# Altium footprint library Resistors THD.PcbLib: 108 footprints (part 3 of 7)
Each footprint in its own frame and in the unit in brackets; x right, y up, seen from the top. Pads: shape width x height; smd on the part's side, far side on the other; paste and mask are expansions set on the pad; w line width, h text height; cw(c..) or ccw(c..) is an arc to the next point about the centre after c.
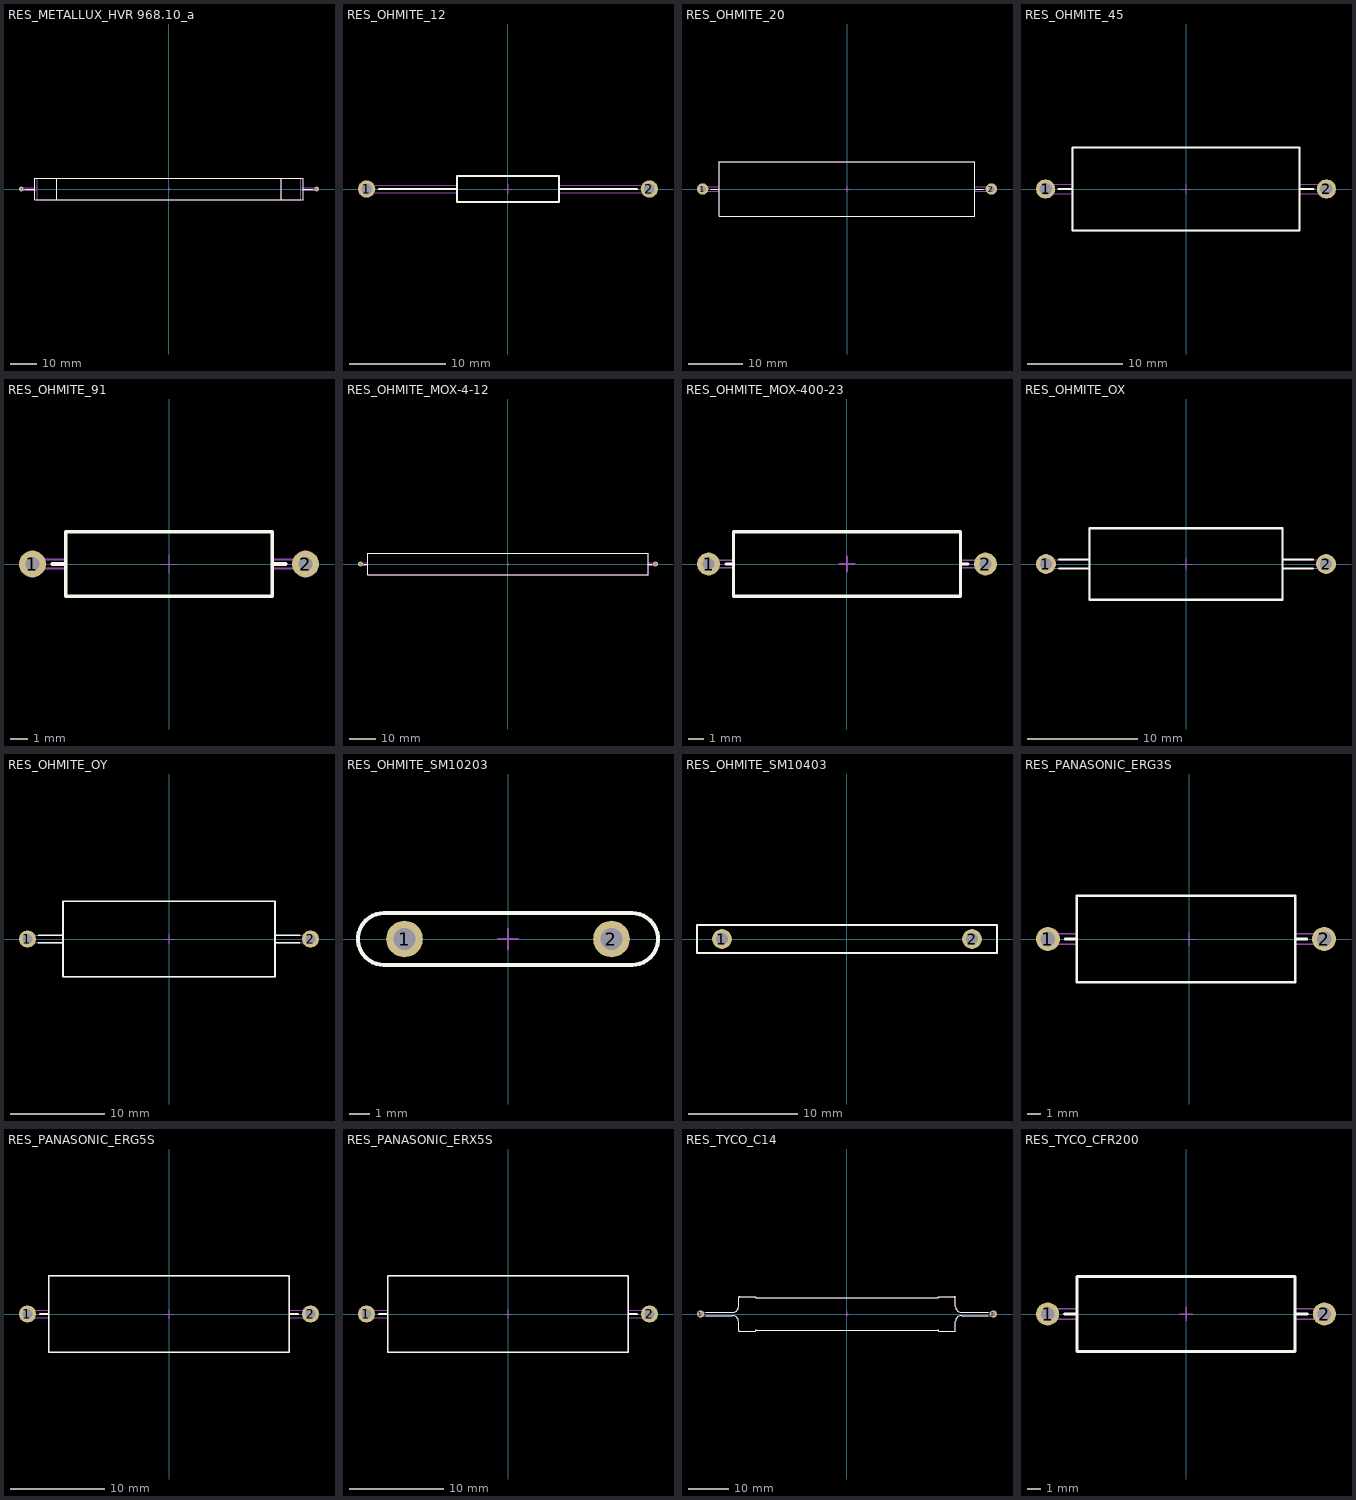
[diagram p2: the footprints below, top view; thin cyan lines are the x and y axes]

## RES_METALLUX_HVR 968.10_a [mm] "Resistor, Axial, Lead Spacing 112mm - Body Lengh 102mm X Body Diameter 8mm, Blue Coating"
height 8
pads (2):
  round 1.8 hole 1.1: 1(-56,0) 2(56,0)
Top Overlay:
  lines w0.2: -54.7,0 -51,0 ; -42.5,-4 -42.5,4 ; 42.5,-4 42.5,4 ; 51,0 54.7,0 ; -51,-4 51,-4 51,4 -51,4 -51,-4
Mechanical 8:
  lines w0.1: -56.5,0 -56,0 ; -56,-0.5 -56,0 ; -56,0.5 -56,0 ; -55.5,0 -56,0 ; -0.5,0 0,0 ; 0,-0.5 0,0 ; 0,0.5 0,0 ; 0.5,0 0,0 ; 55.5,0 56,0 ; 56,-0.5 56,0 ; 56,0.5 56,0 ; 56.5,0 56,0
Mechanical 14:
  lines w0.1: -50,-0.75 -51,-0.4 ; -50,0.75 -51,0.4 ; -42.5,-4 -42.5,4 ; 42.5,-4 42.5,4 ; 50,-0.75 51,-0.4 ; 50,0.75 51,0.4 ; -51,-0.4 -51,0.4 ; -51,-0.4 -56,-0.4 cw(c-56,0) -56,0.4 -51,0.4 ; 51,-0.4 51,0.4 ; 51,-0.4 56,-0.4 ccw(c56,0) 56,0.4 51,0.4 ; -50,-4 50,-4 50,4 -50,4 -50,-4
3D body "RES_METALLUX_HVR 968.10_a.stp": height 8, standoff -7.6, extent -56.4,-4 56.4,4

## RES_OHMITE_12 [mm] "Resistor, Axial, Pad Spacing 29.4mm - Body Lengh 10.6mm X Body Diameter 2.4mm"
height 2.4
pads (2):
  round 1.8 hole 1.1: 1(-14.7,0) 2(14.7,0)
Top Overlay:
  lines w0.2: -13.4,0 -5.3,0 ; 5.3,0 13.4,0 ; -5.3,-1.35 -5.3,1.35 5.3,1.35 5.3,-1.35 -5.3,-1.35
Mechanical 8:
  lines w0.1: -15.2,0 -14.7,0 ; -14.7,-0.5 -14.7,0 ; -14.7,0.5 -14.7,0 ; -14.2,0 -14.7,0 ; -0.5,0 0,0 ; 0,-0.5 0,0 ; 0,0.5 0,0 ; 0.5,0 0,0 ; 14.2,0 14.7,0 ; 14.7,-0.5 14.7,0 ; 14.7,0.5 14.7,0 ; 15.2,0 14.7,0
Mechanical 14:
  lines w0.1: -5.3,-0.402 -14.699,-0.406 cw(c-14.7,0) -14.7,0.406 -5.3,0.406 ; 5.3,-0.402 14.699,-0.406 ccw(c14.7,0) 14.7,0.406 5.3,0.406 ; -5.3,-1.35 -5.3,1.35 5.3,1.35 5.3,-1.35 -5.3,-1.35
3D body "RES_OHMITE_12.stp": height 2.7, standoff -3.6, extent -15.106,-1.35 15.106,1.35

## RES_OHMITE_20 [mm] "Resistor, Axial, Pad Spacing 53.34mm - Body Lengh 47.2mm X Body Diameter 10mm"
height 10
pads (2):
  round 2.1 hole 1.1: 1(-26.67,0) 2(26.67,0)
Top Overlay:
  lines w0.2: -25.2,0 -23.6,0 ; 23.6,0 25.2,0 ; -23.6,-5 23.6,-5 23.6,5 -23.6,5 -23.6,-5
Mechanical 8:
  lines w0.05: -27.17,0 -26.67,0 ; -26.67,-0.5 -26.67,0 ; -26.67,0.5 -26.67,0 ; -26.17,0 -26.67,0 ; -0.5,0 0,0 ; 0,-0.5 0,0 ; 0,0.5 0,0 ; 0.5,0 0,0 ; 26.17,0 26.67,0 ; 26.67,-0.5 26.67,0 ; 26.67,0.5 26.67,0 ; 27.17,0 26.67,0
Mechanical 14:
  lines w0.1: -23.6,-0.4 -26.67,-0.4 cw(c-26.67,0) -26.67,0.4 -23.6,0.4 ; 23.6,-0.4 26.67,-0.4 ccw(c26.67,0) 26.67,0.4 23.6,0.4 ; -23.6,-5 23.6,-5 23.6,5 -23.6,5 -23.6,-5
3D body "RES_OHMITE_20.stp": height 10, standoff 0, extent -27.069,-5 27.069,5

## RES_OHMITE_45 [mm] "Resistor, Axial, Pad Spacing 29.4mm - Body Lengh 23.8mm X Body Diameter 8.7mm"
height 8.7
pads (2):
  round 2 hole 1.3: 1(-14.7,0) 2(14.7,0)
Top Overlay:
  lines w0.2: -13.35,0 -11.9,0 ; 11.9,0 13.35,0 ; -11.9,-4.35 11.9,-4.35 11.9,4.35 -11.9,4.35 -11.9,-4.35
Mechanical 8:
  lines w0.05: -15.2,0 -14.7,0 ; -14.7,-0.5 -14.7,0 ; -14.7,0.5 -14.7,0 ; -14.2,0 -14.7,0 ; -0.5,0 0,0 ; 0,-0.5 0,0 ; 0,0.5 0,0 ; 0.5,0 0,0 ; 14.2,0 14.7,0 ; 14.7,-0.5 14.7,0 ; 14.7,0.5 14.7,0 ; 15.2,0 14.7,0
Mechanical 14:
  lines w0.1: -14.7,0.5 ccw(c-14.705,0) -14.699,-0.5 ; -14.7,0.506 -11.9,0.506 ; -14.699,-0.506 -11.9,-0.502 ; 11.9,-0.502 14.699,-0.506 ; 11.9,0.506 14.7,0.506 ; 14.699,-0.5 ccw(c14.705,0) 14.7,0.5 ; -11.9,-4.35 11.9,-4.35 11.9,4.35 -11.9,4.35 -11.9,-4.35
3D body "RES_OHMITE_45.stp": height 8.7, standoff -3.6, extent -15.199,-4.35 15.199,4.35

## RES_OHMITE_91 [mm] "Resistor, Axial, Pad Spacing 15.24mm - Body Lengh 11.5mm X Body Diameter 3.6mm"
height 3.6
pads (2):
  round 1.5 hole 0.8: 1(-7.62,0) 2(7.62,0)
Top Overlay:
  lines w0.2: -6.52,0 -5.75,0 ; 5.75,0 6.52,0 ; -5.75,-1.8 5.75,-1.8 5.75,1.8 -5.75,1.8 -5.75,-1.8
Mechanical 8:
  lines w0.05: -8.12,0 -7.62,0 ; -7.62,-0.5 -7.62,0 ; -7.62,0.5 -7.62,0 ; -7.12,0 -7.62,0 ; -0.5,0 0,0 ; 0,-0.5 0,0 ; 0,0.5 0,0 ; 0.5,0 0,0 ; 7.12,0 7.62,0 ; 7.62,-0.5 7.62,0 ; 7.62,0.5 7.62,0 ; 8.12,0 7.62,0
Mechanical 14:
  lines w0.1: -5.75,-0.255 -7.62,-0.255 cw(c-7.62,0) -7.62,0.256 -5.75,0.256 ; 5.75,-0.255 7.62,-0.255 ccw(c7.62,0) 7.62,0.256 5.75,0.256 ; -5.75,-1.8 5.75,-1.8 5.75,1.8 -5.75,1.8 -5.75,-1.8
3D body "RES_OHMITE_91.stp": height 3.6, standoff -3.6, extent -7.873,-1.8 7.874,1.8

## RES_OHMITE_MOX-4-12 [mm] "Resistor, Axial, Pad spacing 110mm - Body Lengh 104.65mm X Body Diameter 7.87mm"
height 7.87
pads (2):
  round 1.8 hole 1.1: 1(-55,0) 2(55,0)
Top Overlay:
  lines w0.2: -53.7,0 -52.325,0 ; 52.325,0 53.7,0 ; -52.325,-3.935 -52.325,3.935 52.325,3.935 52.325,-3.935 -52.325,-3.935
Mechanical 8:
  lines w0.1: -55.5,0 -55,0 ; -55,-0.5 -55,0 ; -55,0.5 -55,0 ; -54.5,0 -55,0 ; -0.5,0 0,0 ; 0,-0.5 0,0 ; 0,0.5 0,0 ; 0.5,0 0,0 ; 54.5,0 55,0 ; 55,-0.5 55,0 ; 55,0.5 55,0 ; 55.5,0 55,0
Mechanical 14:
  lines w0.1: -52.325,-0.4 -55,-0.4 cw(c-55,0) -55,0.4 -52.325,0.4 ; 52.325,-0.4 55,-0.4 ccw(c55,0) 55,0.4 52.325,0.4 ; -52.325,-3.935 -52.325,3.935 52.325,3.935 52.325,-3.935 -52.325,-3.935
3D body "RES_OHMITE_MOX-4-12.stp": height 7.87, standoff -3.6, extent -55.4,-3.935 55.4,3.935

## RES_OHMITE_MOX-400-23 [mm] "Resistor, Axial, Pad spacing 18mm - Body Lengh 14.78mm X Body Diameter 4.19mm"
height 4.19
pads (2):
  round 1.5 hole 0.8: 1(-9,0) 2(9,0)
Top Overlay:
  lines w0.2: -7.85,0 -7.39,0 ; 7.39,0 7.85,0 ; -7.39,-2.095 -7.39,2.095 7.39,2.095 7.39,-2.095 -7.39,-2.095
Mechanical 8:
  lines w0.1: -9.5,0 -9,0 ; -9,-0.5 -9,0 ; -9,0.5 -9,0 ; -8.5,0 -9,0 ; -0.5,0 0,0 ; 0,-0.5 0,0 ; 0,0.5 0,0 ; 0.5,0 0,0 ; 8.5,0 9,0 ; 9,-0.5 9,0 ; 9,0.5 9,0 ; 9.5,0 9,0
Mechanical 14:
  lines w0.1: -7.39,-0.25 -9,-0.25 cw(c-9,0) -9,0.25 -7.39,0.25 ; 7.39,-0.25 9,-0.25 ccw(c9,0) 9,0.25 7.39,0.25 ; -7.39,-2.095 -7.39,2.095 7.39,2.095 7.39,-2.095 -7.39,-2.095
3D body "RES_OHMITE_MOX-400-23.stp": height 4.19, standoff -3.6, extent -9.25,-2.095 9.25,2.095

## RES_OHMITE_OX [mm] "Resistor, Axial, Pad spacing 25.4mm - Body Lengh 19mm X Body Diameter 6.5mm"
height 6.5
pads (2):
  round 1.8 hole 1.1: 1(-12.7,0) 2(12.7,0)
Top Overlay:
  lines w0.2: -11.516,-0.4 -8.75,-0.4 ; -11.516,0.4 -8.75,0.4 -8.75,0 ; 8.75,-0.4 11.516,-0.4 ; 8.75,0.4 11.516,0.4 ; -8.75,-3.25 8.75,-3.25 8.75,3.25 -8.75,3.25 -8.75,-3.25
Mechanical 8:
  lines w0.05: -13.2,0 -12.7,0 ; -12.7,-0.5 -12.7,0 ; -12.7,0.5 -12.7,0 ; -12.2,0 -12.7,0 ; -0.5,0 0,0 ; 0,-0.5 0,0 ; 0,0.5 0,0 ; 0.5,0 0,0 ; 12.2,0 12.7,0 ; 12.7,-0.5 12.7,0 ; 12.7,0.5 12.7,0 ; 13.2,0 12.7,0
Mechanical 14:
  lines w0.1: -8.75,-0.4 -12.7,-0.4 cw(c-12.7,0) -12.7,0.4 -8.75,0.4 -8.75,0 ; 8.75,-0.4 12.7,-0.4 ccw(c12.7,0) 12.7,0.4 8.75,0.4 ; -8.75,-3.25 8.75,-3.25 8.75,3.25 -8.75,3.25 -8.75,-3.25
3D body "RES_OHMITE_OX.stp": height 6.5, standoff -3.6, extent -13.1,-3.25 13.101,3.25

## RES_OHMITE_OY [mm] "Resistor, Axial, Pad spacing 30mm - Body Lengh 22.5mm X Body Diameter 8mm"
height 8
pads (2):
  round 1.8 hole 1.1: 1(-15,0) 2(15,0)
Top Overlay:
  lines w0.2: -13.816,-0.4 -11.25,-0.4 ; -13.816,0.4 -11.25,0.4 ; 11.25,-0.4 13.816,-0.4 ; 11.25,0.4 13.816,0.4 ; -11.25,-4 -11.25,4 11.25,4 11.25,-4 -11.25,-4
Mechanical 2:
  lines w0.1: -15,0 -15,0.4
Mechanical 8:
  lines w0.05: -15.5,0 -15,0 ; -15,-0.5 -15,0 ; -15,0.5 -15,0 ; -14.5,0 -15,0 ; -0.5,0 0,0 ; 0,-0.5 0,0 ; 0,0.5 0,0 ; 0.5,0 0,0 ; 14.5,0 15,0 ; 15,-0.5 15,0 ; 15,0.5 15,0 ; 15.5,0 15,0
Mechanical 14:
  lines w0.1: -11.25,-0.4 -15,-0.4 cw(c-15,0) -15,0.4 -11.25,0.4 ; 11.25,-0.4 15,-0.4 ccw(c15,0) 15,0.4 11.25,0.4 ; -11.25,-4 -11.25,4 11.25,4 11.25,-4 -11.25,-4
3D body "RES_OHMITE_OY.stp": height 8, standoff -3.6, extent -15.398,-4 15.398,4

## RES_OHMITE_SM10203 [mm] "Resistor, Radial, Pad spacing 10.16mm - Body 14.73mm X 2.54mm X 8.64mm H"
height 8.64
pads (2):
  round 1.8 hole 1.1: 1(-5.08,0) 2(5.08,0)
Top Overlay:
  lines w0.2: -6.095,-1.27 cw(c-6.095,0) -6.095,1.27 6.095,1.27 cw(c6.095,0) 6.095,-1.27 -6.095,-1.27
Mechanical 8:
  lines w0.1: -5.58,0 -5.08,0 ; -5.08,-0.5 -5.08,0 ; -5.08,0.5 -5.08,0 ; -4.58,0 -5.08,0 ; -0.5,0 0,0 ; 0,-0.5 0,0 ; 0,0.5 0,0 ; 0.5,0 0,0 ; 4.58,0 5.08,0 ; 5.08,-0.5 5.08,0 ; 5.08,0.5 5.08,0 ; 5.58,0 5.08,0
Mechanical 14:
  lines w0.1: -6.095,-1.27 cw(c-6.095,0) -6.095,1.27 6.095,1.27 cw(c6.095,0) 6.095,-1.27 -6.095,-1.27
3D body "RES_OHMITE_SM10203.stp": height 9.14, standoff -3.6, extent -7.365,-1.27 7.365,1.27

## RES_OHMITE_SM10403 [mm] "Resistor, Radial, Pad spacing 22.86mm - Body 2.54mm X 27.43mm X 8.64mm H"
height 8.64
pads (2):
  round 1.8 hole 1.1: 1(-11.43,0) 2(11.43,0)
Top Overlay:
  lines w0.2: -13.715,-1.27 -13.715,1.27 13.715,1.27 13.715,-1.27 -13.715,-1.27
Mechanical 14:
  lines w0.1: -13.715,-1.27 -13.715,1.27 13.715,1.27 13.715,-1.27 -13.715,-1.27
3D body "RES_OHMITE_SM10403.stp": height 8.64, standoff -3.2, extent -13.715,-1.27 13.715,1.27

## RES_PANASONIC_ERG3S [mm] "Resistor, Axial, Pad Spacing 20.32mm - Body Lengh 15mm X Body Diameter 5.5mm"
height 8.1
pads (2):
  round 1.8 hole 1.1: 1(-10.66,0) 2(10.16,0)
Top Overlay:
  lines w0.2: -9.36,0 -8.5,0 ; 8,0 8.86,0 ; -8.5,-3.25 8,-3.25 8,3.25 -8.5,3.25 -8.5,-3.25
Mechanical 8:
  lines w0.05: -11.16,0 -10.66,0 ; -10.66,-0.5 -10.66,0 ; -10.66,0.5 -10.66,0 ; -10.16,0 -10.66,0 ; -0.5,0 0,0 ; 0,-0.5 0,0 ; 0,0.5 0,0 ; 0.5,0 0,0 ; 9.66,0 10.16,0 ; 10.16,-0.5 10.16,0 ; 10.16,0.5 10.16,0 ; 10.66,0 10.16,0
Mechanical 14:
  lines w0.1: -8.5,-0.4 -10.66,-0.4 cw(c-10.66,0) -10.66,0.4 -8.5,0.4 ; 8,-0.4 10.16,-0.4 ccw(c10.16,0) 10.16,0.4 8,0.4 ; -8.5,-3.25 -8.5,3.25 8,3.25 8,-3.25 -8.5,-3.25
3D body "RES_PANASONIC_ERG3S.stp": height 6.5, standoff -5.35, extent -11.057,-3.25 10.557,3.25

## RES_PANASONIC_ERG5S [mm] "Resistor, Axial, Pad Spacing 30mm - Body Lengh 24mm X Body Diameter 8mm"
height 8.1
pads (2):
  round 1.8 hole 1.1: 1(-15,0) 2(15,0)
Top Overlay:
  lines w0.2: -13.7,0 -12.75,0 ; 12.75,0 13.7,0 ; -12.75,-4.05 12.75,-4.05 12.75,4.05 -12.75,4.05 -12.75,-4.05
Mechanical 8:
  lines w0.1: -15.5,0 -15,0 ; -15,-0.5 -15,0 ; -15,0.5 -15,0 ; -14.5,0 -15,0 ; -0.5,0 0,0 ; 0,-0.5 0,0 ; 0,0.5 0,0 ; 0.5,0 0,0 ; 14.5,0 15,0 ; 15,-0.5 15,0 ; 15,0.5 15,0 ; 15.5,0 15,0
Mechanical 14:
  lines w0.1: -12.75,-0.4 -15,-0.4 cw(c-15,0) -15,0.4 -12.75,0.4 ; 12.75,-0.4 15,-0.4 ccw(c15,0) 15,0.4 12.75,0.4 ; -12.75,-4.05 12.75,-4.05 12.75,4.05 -12.75,4.05 -12.75,-4.05
3D body "RES_PANASONIC_ERG5S.stp": height 8.1, standoff -4.55, extent -15.4,-4.05 15.4,4.05

## RES_PANASONIC_ERX5S [mm] "Resistor, Axial, Pad Spacing 30mm - Body Lengh 24mm X Body Diameter 8mm"
height 8.1
pads (2):
  round 1.8 hole 1.1: 1(-15,0) 2(15,0)
Top Overlay:
  lines w0.2: -13.7,0 -12.75,0 ; 12.75,0 13.7,0 ; -12.75,-4.05 12.75,-4.05 12.75,4.05 -12.75,4.05 -12.75,-4.05
Mechanical 8:
  lines w0.1: -15.5,0 -15,0 ; -15,-0.5 -15,0 ; -15,0.5 -15,0 ; -14.5,0 -15,0 ; -0.5,0 0,0 ; 0,-0.5 0,0 ; 0,0.5 0,0 ; 0.5,0 0,0 ; 14.5,0 15,0 ; 15,-0.5 15,0 ; 15,0.5 15,0 ; 15.5,0 15,0
Mechanical 14:
  lines w0.1: -12.75,-0.4 -15,-0.4 cw(c-15,0) -15,0.4 -12.75,0.4 ; 12.75,-0.4 15,-0.4 ccw(c15,0) 15,0.4 12.75,0.4 ; -12.75,-4.05 12.75,-4.05 12.75,4.05 -12.75,4.05 -12.75,-4.05
3D body "RES_PANASONIC_ERX5S.stp": height 8.1, standoff -4.55, extent -15.4,-4.05 15.4,4.05

## RES_TYCO_C14 [mm] "Resistor, Axial, Pad spacing 71.9mm - Body Lengh 53.3mm X Body Diameter 8.5mm"
height 8.5
pads (2):
  round 1.8 hole 1.1: 1(-35.95,0) 2(35.95,0)
Top Overlay:
  lines w0.2: -34.713,-0.4 -28.15,-0.4 cw(c-28.15,-1.9) -26.65,-1.9 -26.65,-4 ccw(c-26.4,-4) -26.4,-4.25 -22.5,-4.25 -22.5,-4.2 cw(c-22.25,-4.2) -22.25,-3.95 22.25,-3.95 cw(c22.25,-4.2) 22.5,-4.2 22.5,-4.25 26.4,-4.25 ccw(c26.4,-4) 26.65,-4 26.65,-1.9 cw(c28.15,-1.9) 28.15,-0.4 34.713,-0.4 ; -34.713,0.4 -28.15,0.4 ccw(c-28.15,1.9) -26.65,1.9 -26.65,4 cw(c-26.4,4) -26.4,4.25 -22.5,4.25 -22.5,4.2 ccw(c-22.25,4.2) -22.25,3.95 22.25,3.95 ccw(c22.25,4.2) 22.5,4.2 22.5,4.25 26.4,4.25 cw(c26.4,4) 26.65,4 26.65,1.9 ccw(c28.15,1.9) 28.15,0.4 34.713,0.4
Mechanical 8:
  lines w0.1: -36.45,0 -35.95,0 ; -35.95,-0.5 -35.95,0 ; -35.95,0.5 -35.95,0 ; -35.45,0 -35.95,0 ; -0.5,0 0,0 ; 0,-0.5 0,0 ; 0,0.5 0,0 ; 0.5,0 0,0 ; 35.45,0 35.95,0 ; 35.95,-0.5 35.95,0 ; 35.95,0.5 35.95,0 ; 36.45,0 35.95,0
Mechanical 14:
  circle w0.1: c-35.95,0 r0.25
  circle w0.1: c-35.95,0 r0.25
  circle w0.1: c-35.95,0 r0.25
  circle w0.1: c-35.95,0 r0.25
  circle w0.1: c35.95,0 r0.25
  circle w0.1: c35.95,0 r0.25
  circle w0.1: c35.95,0 r0.25
  circle w0.1: c35.95,0 r0.25
  lines w0.1: -35.95,-0.4 cw(c-35.95,0) -35.95,0.4 -28.15,0.4 ccw(c-28.15,1.9) -26.65,1.9 -26.65,4 cw(c-26.4,4) -26.4,4.25 -22.5,4.25 -22.5,4.2 ccw(c-22.25,4.2) -22.25,3.95 22.25,3.95 ccw(c22.25,4.2) 22.5,4.2 22.5,4.25 26.4,4.25 cw(c26.4,4) 26.65,4 26.65,1.9 ccw(c28.15,1.9) 28.15,0.4 35.95,0.4 cw(c35.95,0) 35.95,-0.4 28.15,-0.4 ccw(c28.15,-1.9) 26.65,-1.9 26.65,-4 cw(c26.4,-4) 26.4,-4.25 22.5,-4.25 22.5,-4.2 ccw(c22.25,-4.2) 22.25,-3.95 -22.25,-3.95 ccw(c-22.25,-4.2) -22.5,-4.2 -22.5,-4.25 -26.4,-4.25 cw(c-26.4,-4) -26.65,-4 -26.65,-1.9 ccw(c-28.15,-1.9) -28.15,-0.4 -35.95,-0.4
3D body "RES_TYCO_C14.stp": height 8.5, standoff -3.2, extent -36.35,-4.25 36.35,4.25

## RES_TYCO_CFR200 [mm] "Resistor, Axial, Pad spacing 20.32mm - Body Lengh 16mm X Body Diameter 5.5mm"
height 5.5
pads (2):
  round 1.7 hole 1: 1(-10.16,0) 2(10.16,0)
Top Overlay:
  lines w0.2: -8.91,0 -8,0 ; 8,0 8.91,0 ; -8,-2.75 8,-2.75 8,2.75 -8,2.75 -8,-2.75
Mechanical 8:
  lines w0.1: -10.66,0 -10.16,0 ; -10.16,-0.5 -10.16,0 ; -10.16,0.5 -10.16,0 ; -9.66,0 -10.16,0 ; -0.5,0 0,0 ; 0,-0.5 0,0 ; 0,0.5 0,0 ; 0.5,0 0,0 ; 9.66,0 10.16,0 ; 10.16,-0.5 10.16,0 ; 10.16,0.5 10.16,0 ; 10.66,0 10.16,0
Mechanical 14:
  lines w0.1: -8,-0.375 -10.16,-0.375 cw(c-10.16,0) -10.16,0.375 -8,0.375 ; 8,-0.375 10.16,-0.375 ccw(c10.16,0) 10.16,0.375 8,0.375 ; -8,-2.75 8,-2.75 8,2.75 -8,2.75 -8,-2.75
3D body "RES_TYCO_CFR200.stp": height 5.5, standoff -3.6, extent -10.535,-2.75 10.535,2.75